# Altium footprint library Разъемы импортные.PcbLib: 127 footprints (part 6 of 8)
Each footprint in its own frame and in the unit in brackets; x right, y up, seen from the top. Pads: shape width x height; smd on the part's side, far side on the other; paste and mask are expansions set on the pad; w line width, h text height; cw(c..) or ccw(c..) is an arc to the next point about the centre after c.
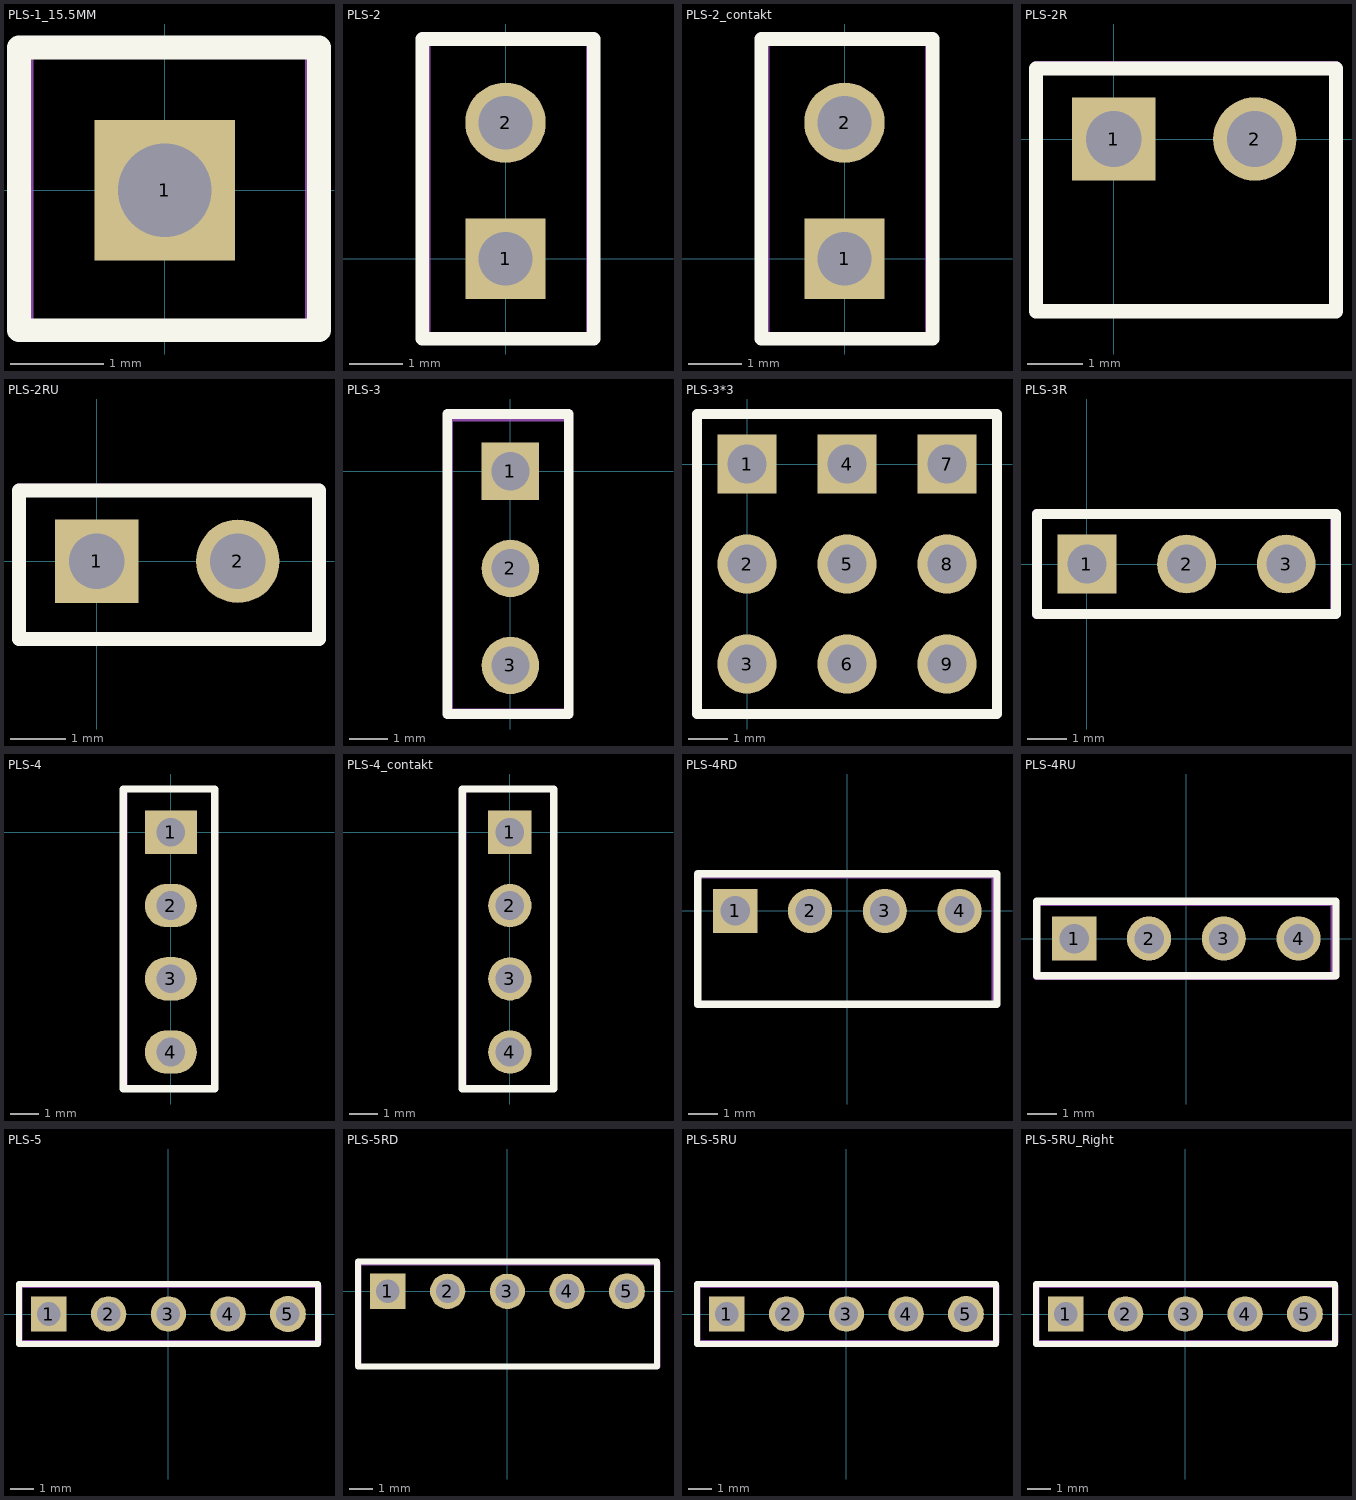
[diagram p5: the footprints below, top view; thin cyan lines are the x and y axes]

## PLS-1_15.5MM [mm]
pads (1):
  rect 1.5x1.5 hole 1: 1(0,0)
Top Overlay:
  lines w0.254: -1.557,-1.497 1.65,-1.497 1.65,1.524 -1.557,1.524 -1.557,-1.497
TopAssy:
  lines w0.2: -1.5,-1.5 -1.5,1.524 1.6,1.524 1.6,-1.5 -1.5,-1.5
  text ".Designator" at -0.7,0.6 h3
3D body "PLS-1 _15.5 мм.stp": height 15.39, standoff -3, extent -1.27,-1.27 1.27,1.27

## PLS-2 [mm]
pads (2):
  rect 1.5x1.5 hole 1: 1(0,0)
  round 1.5 hole 1: 2(0,2.54)
Top Overlay:
  lines w0.254: -1.557,-1.497 1.65,-1.497 1.65,4.103 -1.557,4.103 -1.557,-1.497
TopAssy:
  lines w0.2: -1.5,-1.5 -1.5,4.1 1.6,4.1 1.6,-1.5 -1.5,-1.5
  text ".Designator" at -0.7,0.6 h3
3D body "PLD-2.STEP": height 8.44, standoff -3, extent -1.227,-1.267 1.313,3.813

## PLS-2_contakt [mm]
pads (2):
  rect 1.5x1.5 hole 1: 1(0,0)
  round 1.5 hole 1: 2(0,2.54)
Top Overlay:
  lines w0.254: -1.557,-1.497 1.65,-1.497 1.65,4.103 -1.557,4.103 -1.557,-1.497
TopAssy:
  lines w0.2: -1.5,-1.5 -1.5,4.1 1.6,4.1 1.6,-1.5 -1.5,-1.5
  text ".Designator" at -0.7,0.6 h3

## PLS-2R [mm]
pads (2):
  rect 1.5x1.5 hole 1: 1(0,0)
  round 1.5 hole 1: 2(2.54,0)
Top Overlay:
  lines w0.254: -1.4,-3.1 4,-3.1 4,1.27 -1.4,1.27 -1.4,-3.1
TopAssy:
  lines w0.2: -1.4,-3.1 4,-3.1 4,1.3 -1.4,1.3 -1.4,-3.1
  text ".Designator" at -1.3,-0.8 h3
3D body "PLS-2R.stp": height 2.54, standoff -2.54, extent -1.24,-9.149 3.84,0.3

## PLS-2RU [mm]
pads (2):
  rect 1.5x1.5 hole 1: 1(0,0)
  round 1.5 hole 1: 2(2.54,0)
Top Overlay:
  lines w0.254: -1.4,-1.4 4,-1.4 4,1.27 -1.4,1.27 -1.4,-1.4
TopAssy:
  lines w0.2: -1.4,-1.4 4,-1.4 4,1.3 -1.4,1.3 -1.4,-1.4
  text ".Designator" at -1.3,-0.8 h3
3D body "PLS-2RU.step": height 5.45, standoff -3, extent -1.27,-7.35 3.81,1.27

## PLS-3 [mm]
pads (3):
  rect 1.5x1.5 hole 1: 1(0,0)
  round 1.5 hole 1: 2(0,-2.54) 3(0,-5.08)
Top Overlay:
  lines w0.254: -1.65,-6.35 -1.65,1.497 1.524,1.497 1.524,-6.35 -1.65,-6.35
TopAssy:
  lines w0.2: -1.6,-6.3 1.5,-6.3 1.5,1.4 -1.6,1.4 -1.6,-6.3
  text ".Designator" at -0.8,-4.2 h3
3D body "User Library-PLS-3.STEP": height 8.54, standoff -3, extent -1.27,-6.35 1.27,1.27

## PLS-3*3 [mm]
pads (9):
  rect 1.5x1.5 hole 1: 1(0,0) 4(2.54,0) 7(5.08,0)
  round 1.5 hole 1: 2(0,-2.54) 3(0,-5.08) 5(2.54,-2.54) 6(2.54,-5.08) 8(5.08,-2.54) 9(5.08,-5.08)
Top Overlay:
  lines w0.254: 0.89,-6.35 4.064,-6.35 ; 1.524,-6.35 -1.27,-6.35 -1.27,1.27 6.35,1.27 6.35,-6.35 3.43,-6.35
3D body "User Library-PLS-3.STEP": height 8.54, standoff -3, extent 3.81,-6.35 6.35,1.27
3D body "User Library-PLS-3.STEP": height 8.54, standoff -3, extent 1.27,-6.35 3.81,1.27
3D body "User Library-PLS-3.STEP": height 8.54, standoff -3, extent -1.27,-6.35 1.27,1.27

## PLS-3R [mm]
pads (3):
  rect 1.5x1.5 hole 1: 1(0,0)
  round 1.5 hole 1: 2(2.54,0) 3(5.08,0)
Top Overlay:
  lines w0.254: -1.27,-1.27 6.35,-1.27 6.35,1.27 -1.27,1.27 -1.27,-1.27
TopAssy:
  lines w0.2: -1.3,-1.3 -1.3,1.3 6.3,1.3 6.3,-1.3 -1.3,-1.3
  text ".Designator" at -1.1,-1.1 h3
3D body "PLS-3R.STEP": height 5.45, standoff -3, extent -1.27,-7.35 6.35,1.27

## PLS-4 [mm]
pads (4):
  rect 1.8x1.5 hole 1: 1(0,0)
  oval 1.8x1.5 hole 1: 2(0,-2.54) 3(0,-5.08) 4(0,-7.62)
Top Overlay:
  lines w0.254: -1.65,-8.89 -1.65,1.497 1.524,1.497 1.524,-8.89 -1.65,-8.89
TopAssy:
  lines w0.2: -1.6,-8.9 1.5,-8.9 1.5,1.5 -1.6,1.5 -1.6,-8.9
  text ".Designator" at -0.8,-6.8 h3
3D body "PLD-2.STEP": height 8.44, standoff -3, extent -1.27,-8.89 1.27,-3.81
3D body "PLD-2.STEP": height 8.44, standoff -3, extent -1.27,-3.81 1.27,1.27

## PLS-4_contakt [mm]
pads (4):
  rect 1.5x1.5 hole 1: 1(0,0)
  round 1.5 hole 1: 2(0,-2.54) 3(0,-5.08) 4(0,-7.62)
Top Overlay:
  lines w0.254: -1.65,-8.89 -1.65,1.497 1.524,1.497 1.524,-8.89 -1.65,-8.89
TopAssy:
  lines w0.2: -1.6,-8.9 1.5,-8.9 1.5,1.5 -1.6,1.5 -1.6,-8.9
  text ".Designator" at -0.8,-6.8 h3

## PLS-4RD [mm]
pads (4):
  rect 1.5x1.5 hole 1: 1(-3.81,0)
  round 1.5 hole 1: 2(-1.27,0) 3(1.27,0) 4(3.81,0)
Top Overlay:
  lines w0.254: -5.08,-3.175 5.08,-3.175 5.08,1.27 -5.08,1.27 -5.08,-3.175
TopAssy:
  lines w0.2: -5.11,-3.175 -5.11,1.2 4.99,1.2 4.99,-3.175 -5.11,-3.175
  text ".Designator" at -5.08,-1.27 h3
3D body "PLS-4RD.stp": height 2.64, standoff -2.44, extent -5.08,-9.169 5.08,0.279

## PLS-4RU [mm]
pads (4):
  rect 1.5x1.5 hole 1: 1(-3.81,0)
  round 1.5 hole 1: 2(-1.27,0) 3(1.27,0) 4(3.81,0)
Top Overlay:
  lines w0.254: -5.08,-1.27 5.08,-1.27 5.08,1.27 -5.08,1.27 -5.08,-1.27
TopAssy:
  lines w0.2: -5.11,-1.3 -5.11,1.2 4.99,1.2 4.99,-1.3 -5.11,-1.3
  text ".Designator" at -5.08,-1.27 h3
3D body "PLS-4R.STEP": height 5.45, standoff -3, extent -5.08,-7.35 5.08,1.27

## PLS-5 [mm]
pads (5):
  rect 1.5x1.5 hole 1: 1(-5.08,0)
  round 1.5 hole 1: 2(-2.54,0) 3(0,0) 4(2.54,0)
  round 1.524 hole 1: 5(5.08,0)
Top Overlay:
  lines w0.254: -6.35,-1.27 -6.35,1.27 6.35,1.27 6.35,-1.27 -6.35,-1.27
TopAssy:
  lines w0.2: -6.3,-1.2 -6.3,1.2 6.4,1.2 6.4,-1.2 -6.3,-1.2
  text ".Designator" at -6.5,-1.1 h3
3D body "PLS-5.step": height 8.54, standoff -3, extent -6.35,-1.27 6.35,1.27

## PLS-5RD [mm]
pads (5):
  rect 1.5x1.5 hole 1: 1(-5.08,0)
  round 1.5 hole 1: 2(-2.54,0) 3(0,0) 4(2.54,0)
  round 1.524 hole 1: 5(5.08,0)
Top Overlay:
  lines w0.254: -6.35,-3.2 6.35,-3.2 6.35,1.27 -6.35,1.27 -6.35,-3.2
TopAssy:
  lines w0.2: -6.3,-3.2 6.4,-3.2 6.4,1.2 -6.3,1.2 -6.3,-3.2
  text ".Designator" at -6.5,-1.1 h3
3D body "PLS-5RD.step": height 2.64, standoff -2.44, extent -6.35,-9.195 6.35,0.254

## PLS-5RU [mm]
pads (5):
  rect 1.5x1.5 hole 1: 1(-5.08,0)
  round 1.5 hole 1: 2(-2.54,0) 3(0,0) 4(2.54,0)
  round 1.524 hole 1: 5(5.08,0)
Top Overlay:
  lines w0.254: -6.35,-1.27 -6.35,1.27 6.35,1.27 6.35,-1.27 -6.35,-1.27
TopAssy:
  lines w0.2: -6.3,-1.2 -6.3,1.2 6.4,1.2 6.4,-1.2 -6.3,-1.2
  text ".Designator" at -6.5,-1.1 h3
3D body "PLS-5RU.step": height 5.55, standoff -2.9, extent -6.3,-7.41 6.4,1.21

## PLS-5RU_Right [mm]
pads (5):
  rect 1.5x1.5 hole 1: 1(-5.08,0)
  round 1.5 hole 1: 2(-2.54,0) 3(0,0) 4(2.54,0)
  round 1.524 hole 1: 5(5.08,0)
Top Overlay:
  lines w0.254: -6.35,-1.27 -6.35,1.27 6.35,1.27 6.35,-1.27 -6.35,-1.27
TopAssy:
  lines w0.2: -6.3,-1.2 -6.3,1.2 6.4,1.2 6.4,-1.2 -6.3,-1.2
  text ".Designator" at -6.5,-1.1 h3
3D body "PLS-5RU.step": height 5.55, standoff -2.9, extent -6.35,-1.1 6.35,7.52